# Altium schematic symbol library 1N4004.SchLib: 1 symbol
Pins are listed as number, name and electrical type; pins without a type are passive.

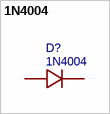
[diagram p0: symbol 1N4004]

## 1N4004
designator D?
通用二极管; spicePre: D
footprint SOD123
footprint SOD323
footprint SOD523
footprint SOD723
pins: 1, 2